# Altium schematic symbol library WS2801S.SchLib: 1 symbol
Pins are listed as number, name and electrical type; pins without a type are passive.

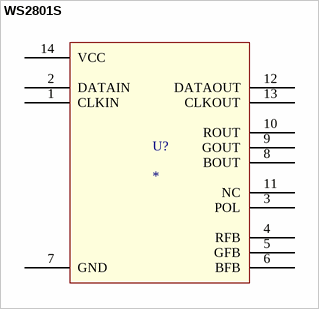
[diagram p0: symbol WS2801S]

## WS2801S
designator U?
SOP-14_150mil LED Drivers ROHS; ComponentLink1Description: LCSC - Worldsemi  WS2801S; ComponentLink1URL: https://lcsc.com/product-detail/LED-Drivers_Worldsemi-WS2801S_C114580.html; LCSC Part #: C114580; JLCPCB Part Type: Extended
footprint SOIC127P600X175-14N
pins: 1 CLKIN, 2 DATAIN, 3 POL, 4 RFB, 5 GFB, 6 BFB, 7 GND, 8 BOUT, 9 GOUT, 10 ROUT, 11 NC, 12 DATAOUT, 13 CLKOUT, 14 VCC